# Altium footprint library HARTING Footprints.PcbLib: 317 footprints (part 15 of 20)
Each footprint in its own frame and in the unit in brackets; x right, y up, seen from the top. Pads: shape width x height; smd on the part's side, far side on the other; paste and mask are expansions set on the pad; w line width, h text height; cw(c..) or ccw(c..) is an arc to the next point about the centre after c.
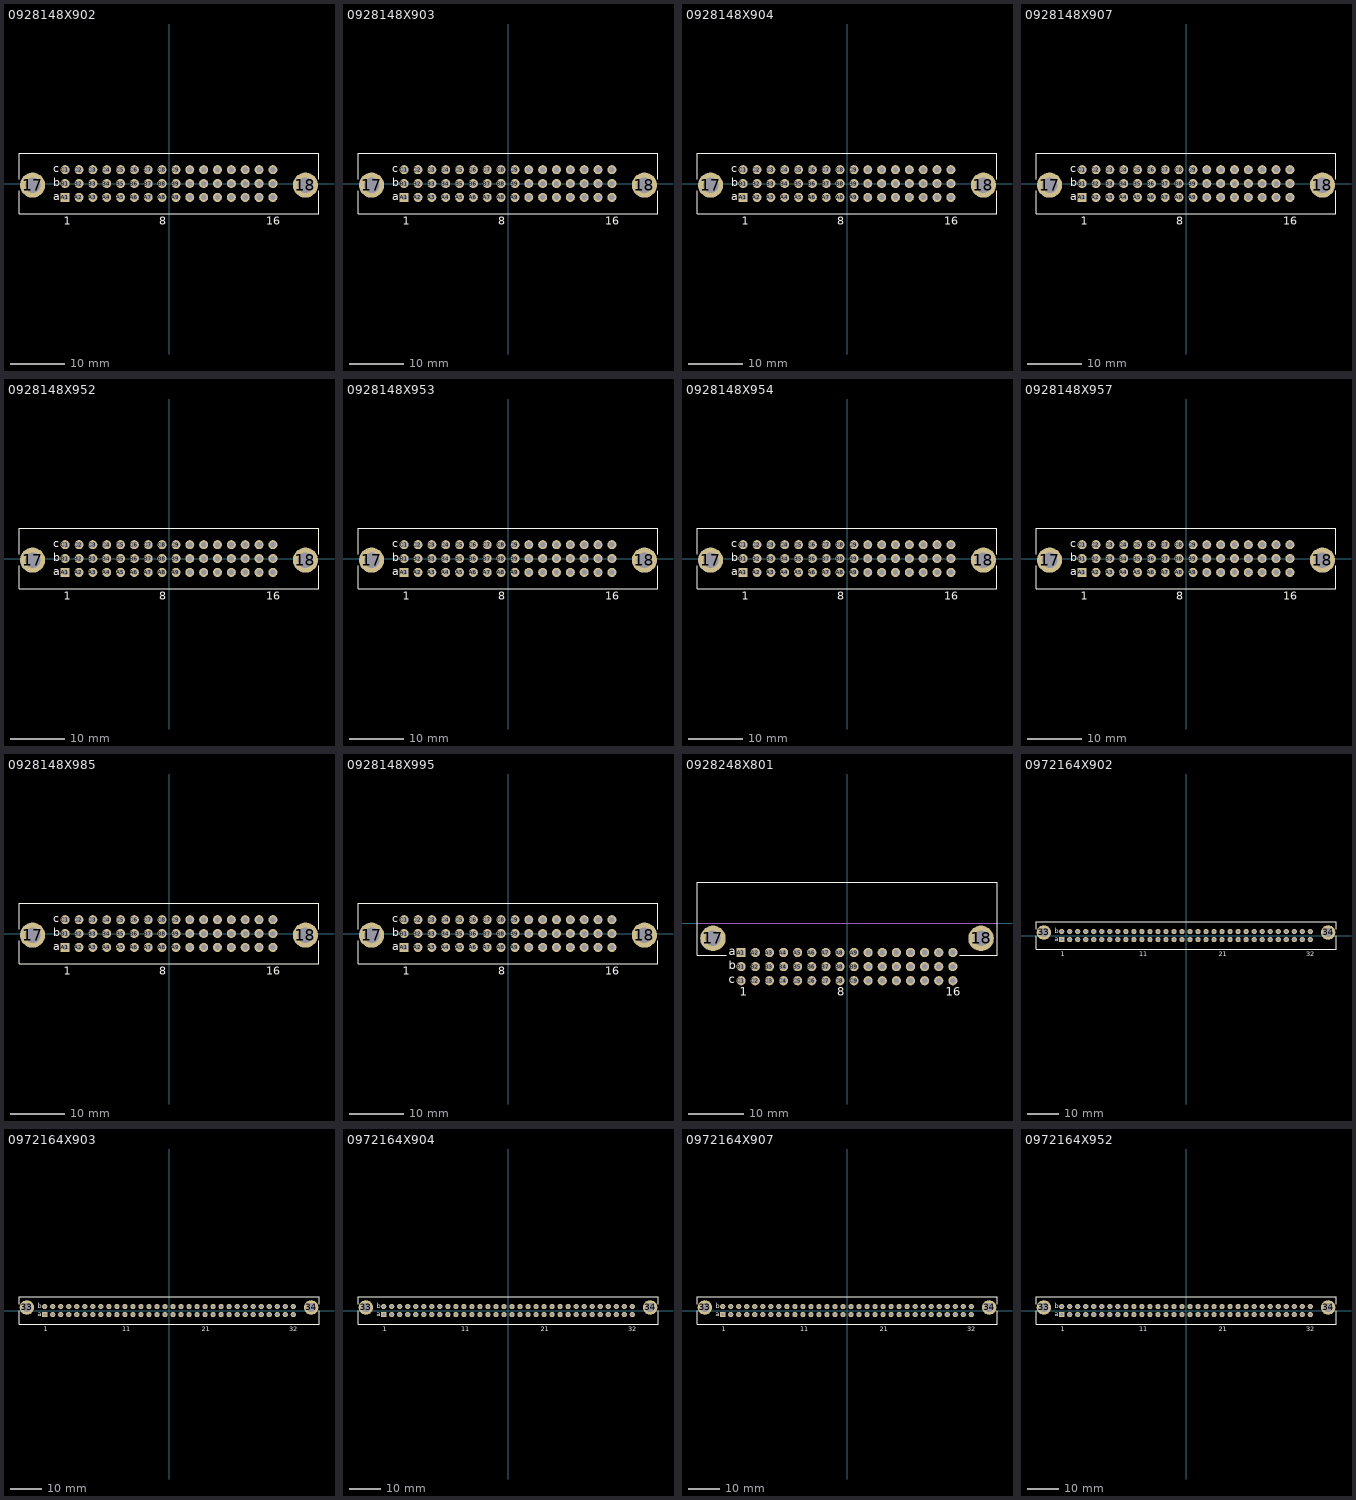
[diagram p14: the footprints below, top view; thin cyan lines are the x and y axes]

## 0928148X902 [mm] "Connector; DIN 41612, Type 2R, Thru-Hole; Rows a+b+c, 48 Position; Vertical"
height 11.6
pads (50):
  round 4.6 hole 2.8: 17(-25,-0.3) 18(25,-0.3)
  rect 1.65x1.65 hole 1: A1(-19.05,-2.54)
  round 1.65 hole 1: A2(-16.51,-2.54) A3(-13.97,-2.54) A4(-11.43,-2.54) A5(-8.89,-2.54) A6(-6.35,-2.54) A7(-3.81,-2.54) A8(-1.27,-2.54) A9(1.27,-2.54) A10(3.81,-2.54) A11(6.35,-2.54) A12(8.89,-2.54) A13(11.43,-2.54) A14(13.97,-2.54) A15(16.51,-2.54) A16(19.05,-2.54) B1(-19.05,0) B2(-16.51,0) B3(-13.97,0) B4(-11.43,0) B5(-8.89,0) B6(-6.35,0) B7(-3.81,0) B8(-1.27,0) B9(1.27,0) B10(3.81,0) B11(6.35,0) B12(8.89,0) B13(11.43,0) B14(13.97,0) B15(16.51,0) B16(19.05,0) C1(-19.05,2.54) C2(-16.51,2.54) C3(-13.97,2.54) C4(-11.43,2.54) C5(-8.89,2.54) C6(-6.35,2.54) C7(-3.81,2.54) C8(-1.27,2.54) C9(1.27,2.54) C10(3.81,2.54) C11(6.35,2.54) C12(8.89,2.54) C13(11.43,2.54) C14(13.97,2.54) C15(16.51,2.54) C16(19.05,2.54)
Top Overlay:
  lines w0.2: -27.5,-1.35 -27.5,-5.55 27.5,-5.55 27.5,-1.35 ; -27.5,0.75 -27.5,5.55 27.5,5.55 27.5,0.75
  text "1" at -19.3,-7.55 h1.5
  text "a" at -21.26,-3.04 h1.5
  text "b" at -21.26,-0.5 h1.5
  text "c" at -21.26,2.04 h1.5
  text "8" at -1.77,-7.55 h1.5
  text "16" at 17.8,-7.55 h1.5

## 0928148X903 [mm] "Connector; DIN 41612, Type 2R, Thru-Hole; Rows a+b+c, 48 Position; Vertical"
height 11.6
pads (50):
  round 4.6 hole 2.8: 17(-25,-0.3) 18(25,-0.3)
  rect 1.65x1.65 hole 1: A1(-19.05,-2.54)
  round 1.65 hole 1: A2(-16.51,-2.54) A3(-13.97,-2.54) A4(-11.43,-2.54) A5(-8.89,-2.54) A6(-6.35,-2.54) A7(-3.81,-2.54) A8(-1.27,-2.54) A9(1.27,-2.54) A10(3.81,-2.54) A11(6.35,-2.54) A12(8.89,-2.54) A13(11.43,-2.54) A14(13.97,-2.54) A15(16.51,-2.54) A16(19.05,-2.54) B1(-19.05,0) B2(-16.51,0) B3(-13.97,0) B4(-11.43,0) B5(-8.89,0) B6(-6.35,0) B7(-3.81,0) B8(-1.27,0) B9(1.27,0) B10(3.81,0) B11(6.35,0) B12(8.89,0) B13(11.43,0) B14(13.97,0) B15(16.51,0) B16(19.05,0) C1(-19.05,2.54) C2(-16.51,2.54) C3(-13.97,2.54) C4(-11.43,2.54) C5(-8.89,2.54) C6(-6.35,2.54) C7(-3.81,2.54) C8(-1.27,2.54) C9(1.27,2.54) C10(3.81,2.54) C11(6.35,2.54) C12(8.89,2.54) C13(11.43,2.54) C14(13.97,2.54) C15(16.51,2.54) C16(19.05,2.54)
Top Overlay:
  lines w0.2: -27.5,-1.35 -27.5,-5.55 27.5,-5.55 27.5,-1.35 ; -27.5,0.75 -27.5,5.55 27.5,5.55 27.5,0.75
  text "1" at -19.3,-7.55 h1.5
  text "a" at -21.26,-3.04 h1.5
  text "b" at -21.26,-0.5 h1.5
  text "c" at -21.26,2.04 h1.5
  text "8" at -1.77,-7.55 h1.5
  text "16" at 17.8,-7.55 h1.5

## 0928148X904 [mm] "Connector; DIN 41612, Type 2R, Thru-Hole; Rows a+b+c, 48 Position; Vertical"
height 11.6
pads (50):
  round 4.6 hole 2.8: 17(-25,-0.3) 18(25,-0.3)
  rect 1.65x1.65 hole 1: A1(-19.05,-2.54)
  round 1.65 hole 1: A2(-16.51,-2.54) A3(-13.97,-2.54) A4(-11.43,-2.54) A5(-8.89,-2.54) A6(-6.35,-2.54) A7(-3.81,-2.54) A8(-1.27,-2.54) A9(1.27,-2.54) A10(3.81,-2.54) A11(6.35,-2.54) A12(8.89,-2.54) A13(11.43,-2.54) A14(13.97,-2.54) A15(16.51,-2.54) A16(19.05,-2.54) B1(-19.05,0) B2(-16.51,0) B3(-13.97,0) B4(-11.43,0) B5(-8.89,0) B6(-6.35,0) B7(-3.81,0) B8(-1.27,0) B9(1.27,0) B10(3.81,0) B11(6.35,0) B12(8.89,0) B13(11.43,0) B14(13.97,0) B15(16.51,0) B16(19.05,0) C1(-19.05,2.54) C2(-16.51,2.54) C3(-13.97,2.54) C4(-11.43,2.54) C5(-8.89,2.54) C6(-6.35,2.54) C7(-3.81,2.54) C8(-1.27,2.54) C9(1.27,2.54) C10(3.81,2.54) C11(6.35,2.54) C12(8.89,2.54) C13(11.43,2.54) C14(13.97,2.54) C15(16.51,2.54) C16(19.05,2.54)
Top Overlay:
  lines w0.2: -27.5,-1.35 -27.5,-5.55 27.5,-5.55 27.5,-1.35 ; -27.5,0.75 -27.5,5.55 27.5,5.55 27.5,0.75
  text "1" at -19.3,-7.55 h1.5
  text "a" at -21.26,-3.04 h1.5
  text "b" at -21.26,-0.5 h1.5
  text "c" at -21.26,2.04 h1.5
  text "8" at -1.77,-7.55 h1.5
  text "16" at 17.8,-7.55 h1.5

## 0928148X907 [mm] "Connector; DIN 41612, Type 2R, Thru-Hole; Rows a+b+c, 48 Position; Vertical"
height 11.6
pads (50):
  round 4.6 hole 2.8: 17(-25,-0.3) 18(25,-0.3)
  rect 1.65x1.65 hole 1: A1(-19.05,-2.54)
  round 1.65 hole 1: A2(-16.51,-2.54) A3(-13.97,-2.54) A4(-11.43,-2.54) A5(-8.89,-2.54) A6(-6.35,-2.54) A7(-3.81,-2.54) A8(-1.27,-2.54) A9(1.27,-2.54) A10(3.81,-2.54) A11(6.35,-2.54) A12(8.89,-2.54) A13(11.43,-2.54) A14(13.97,-2.54) A15(16.51,-2.54) A16(19.05,-2.54) B1(-19.05,0) B2(-16.51,0) B3(-13.97,0) B4(-11.43,0) B5(-8.89,0) B6(-6.35,0) B7(-3.81,0) B8(-1.27,0) B9(1.27,0) B10(3.81,0) B11(6.35,0) B12(8.89,0) B13(11.43,0) B14(13.97,0) B15(16.51,0) B16(19.05,0) C1(-19.05,2.54) C2(-16.51,2.54) C3(-13.97,2.54) C4(-11.43,2.54) C5(-8.89,2.54) C6(-6.35,2.54) C7(-3.81,2.54) C8(-1.27,2.54) C9(1.27,2.54) C10(3.81,2.54) C11(6.35,2.54) C12(8.89,2.54) C13(11.43,2.54) C14(13.97,2.54) C15(16.51,2.54) C16(19.05,2.54)
Top Overlay:
  lines w0.2: -27.5,-1.35 -27.5,-5.55 27.5,-5.55 27.5,-1.35 ; -27.5,0.75 -27.5,5.55 27.5,5.55 27.5,0.75
  text "1" at -19.3,-7.55 h1.5
  text "a" at -21.26,-3.04 h1.5
  text "b" at -21.26,-0.5 h1.5
  text "c" at -21.26,2.04 h1.5
  text "8" at -1.77,-7.55 h1.5
  text "16" at 17.8,-7.55 h1.5

## 0928148X952 [mm] "Connector; DIN 41612, Type 2R, Thru-Hole; Rows a+b+c, 48 Position; Vertical"
height 11.6
pads (50):
  round 4.6 hole 2.8: 17(-25,-0.3) 18(25,-0.3)
  rect 1.65x1.65 hole 1: A1(-19.05,-2.54)
  round 1.65 hole 1: A2(-16.51,-2.54) A3(-13.97,-2.54) A4(-11.43,-2.54) A5(-8.89,-2.54) A6(-6.35,-2.54) A7(-3.81,-2.54) A8(-1.27,-2.54) A9(1.27,-2.54) A10(3.81,-2.54) A11(6.35,-2.54) A12(8.89,-2.54) A13(11.43,-2.54) A14(13.97,-2.54) A15(16.51,-2.54) A16(19.05,-2.54) B1(-19.05,0) B2(-16.51,0) B3(-13.97,0) B4(-11.43,0) B5(-8.89,0) B6(-6.35,0) B7(-3.81,0) B8(-1.27,0) B9(1.27,0) B10(3.81,0) B11(6.35,0) B12(8.89,0) B13(11.43,0) B14(13.97,0) B15(16.51,0) B16(19.05,0) C1(-19.05,2.54) C2(-16.51,2.54) C3(-13.97,2.54) C4(-11.43,2.54) C5(-8.89,2.54) C6(-6.35,2.54) C7(-3.81,2.54) C8(-1.27,2.54) C9(1.27,2.54) C10(3.81,2.54) C11(6.35,2.54) C12(8.89,2.54) C13(11.43,2.54) C14(13.97,2.54) C15(16.51,2.54) C16(19.05,2.54)
Top Overlay:
  lines w0.2: -27.5,-1.35 -27.5,-5.55 27.5,-5.55 27.5,-1.35 ; -27.5,0.75 -27.5,5.55 27.5,5.55 27.5,0.75
  text "1" at -19.3,-7.55 h1.5
  text "a" at -21.26,-3.04 h1.5
  text "b" at -21.26,-0.5 h1.5
  text "c" at -21.26,2.04 h1.5
  text "8" at -1.77,-7.55 h1.5
  text "16" at 17.8,-7.55 h1.5

## 0928148X953 [mm] "Connector; DIN 41612, Type 2R, Thru-Hole; Rows a+b+c, 48 Position; Vertical"
height 11.6
pads (50):
  round 4.6 hole 2.8: 17(-25,-0.3) 18(25,-0.3)
  rect 1.65x1.65 hole 1: A1(-19.05,-2.54)
  round 1.65 hole 1: A2(-16.51,-2.54) A3(-13.97,-2.54) A4(-11.43,-2.54) A5(-8.89,-2.54) A6(-6.35,-2.54) A7(-3.81,-2.54) A8(-1.27,-2.54) A9(1.27,-2.54) A10(3.81,-2.54) A11(6.35,-2.54) A12(8.89,-2.54) A13(11.43,-2.54) A14(13.97,-2.54) A15(16.51,-2.54) A16(19.05,-2.54) B1(-19.05,0) B2(-16.51,0) B3(-13.97,0) B4(-11.43,0) B5(-8.89,0) B6(-6.35,0) B7(-3.81,0) B8(-1.27,0) B9(1.27,0) B10(3.81,0) B11(6.35,0) B12(8.89,0) B13(11.43,0) B14(13.97,0) B15(16.51,0) B16(19.05,0) C1(-19.05,2.54) C2(-16.51,2.54) C3(-13.97,2.54) C4(-11.43,2.54) C5(-8.89,2.54) C6(-6.35,2.54) C7(-3.81,2.54) C8(-1.27,2.54) C9(1.27,2.54) C10(3.81,2.54) C11(6.35,2.54) C12(8.89,2.54) C13(11.43,2.54) C14(13.97,2.54) C15(16.51,2.54) C16(19.05,2.54)
Top Overlay:
  lines w0.2: -27.5,-1.35 -27.5,-5.55 27.5,-5.55 27.5,-1.35 ; -27.5,0.75 -27.5,5.55 27.5,5.55 27.5,0.75
  text "1" at -19.3,-7.55 h1.5
  text "a" at -21.26,-3.04 h1.5
  text "b" at -21.26,-0.5 h1.5
  text "c" at -21.26,2.04 h1.5
  text "8" at -1.77,-7.55 h1.5
  text "16" at 17.8,-7.55 h1.5

## 0928148X954 [mm] "Connector; DIN 41612, Type 2R, Thru-Hole; Rows a+b+c, 48 Position; Vertical"
height 11.6
pads (50):
  round 4.6 hole 2.8: 17(-25,-0.3) 18(25,-0.3)
  rect 1.65x1.65 hole 1: A1(-19.05,-2.54)
  round 1.65 hole 1: A2(-16.51,-2.54) A3(-13.97,-2.54) A4(-11.43,-2.54) A5(-8.89,-2.54) A6(-6.35,-2.54) A7(-3.81,-2.54) A8(-1.27,-2.54) A9(1.27,-2.54) A10(3.81,-2.54) A11(6.35,-2.54) A12(8.89,-2.54) A13(11.43,-2.54) A14(13.97,-2.54) A15(16.51,-2.54) A16(19.05,-2.54) B1(-19.05,0) B2(-16.51,0) B3(-13.97,0) B4(-11.43,0) B5(-8.89,0) B6(-6.35,0) B7(-3.81,0) B8(-1.27,0) B9(1.27,0) B10(3.81,0) B11(6.35,0) B12(8.89,0) B13(11.43,0) B14(13.97,0) B15(16.51,0) B16(19.05,0) C1(-19.05,2.54) C2(-16.51,2.54) C3(-13.97,2.54) C4(-11.43,2.54) C5(-8.89,2.54) C6(-6.35,2.54) C7(-3.81,2.54) C8(-1.27,2.54) C9(1.27,2.54) C10(3.81,2.54) C11(6.35,2.54) C12(8.89,2.54) C13(11.43,2.54) C14(13.97,2.54) C15(16.51,2.54) C16(19.05,2.54)
Top Overlay:
  lines w0.2: -27.5,-1.35 -27.5,-5.55 27.5,-5.55 27.5,-1.35 ; -27.5,0.75 -27.5,5.55 27.5,5.55 27.5,0.75
  text "1" at -19.3,-7.55 h1.5
  text "a" at -21.26,-3.04 h1.5
  text "b" at -21.26,-0.5 h1.5
  text "c" at -21.26,2.04 h1.5
  text "8" at -1.77,-7.55 h1.5
  text "16" at 17.8,-7.55 h1.5

## 0928148X957 [mm] "Connector; DIN 41612, Type 2R, Thru-Hole; Rows a+b+c, 48 Position; Vertical"
height 11.6
pads (50):
  round 4.6 hole 2.8: 17(-25,-0.3) 18(25,-0.3)
  rect 1.65x1.65 hole 1: A1(-19.05,-2.54)
  round 1.65 hole 1: A2(-16.51,-2.54) A3(-13.97,-2.54) A4(-11.43,-2.54) A5(-8.89,-2.54) A6(-6.35,-2.54) A7(-3.81,-2.54) A8(-1.27,-2.54) A9(1.27,-2.54) A10(3.81,-2.54) A11(6.35,-2.54) A12(8.89,-2.54) A13(11.43,-2.54) A14(13.97,-2.54) A15(16.51,-2.54) A16(19.05,-2.54) B1(-19.05,0) B2(-16.51,0) B3(-13.97,0) B4(-11.43,0) B5(-8.89,0) B6(-6.35,0) B7(-3.81,0) B8(-1.27,0) B9(1.27,0) B10(3.81,0) B11(6.35,0) B12(8.89,0) B13(11.43,0) B14(13.97,0) B15(16.51,0) B16(19.05,0) C1(-19.05,2.54) C2(-16.51,2.54) C3(-13.97,2.54) C4(-11.43,2.54) C5(-8.89,2.54) C6(-6.35,2.54) C7(-3.81,2.54) C8(-1.27,2.54) C9(1.27,2.54) C10(3.81,2.54) C11(6.35,2.54) C12(8.89,2.54) C13(11.43,2.54) C14(13.97,2.54) C15(16.51,2.54) C16(19.05,2.54)
Top Overlay:
  lines w0.2: -27.5,-1.35 -27.5,-5.55 27.5,-5.55 27.5,-1.35 ; -27.5,0.75 -27.5,5.55 27.5,5.55 27.5,0.75
  text "1" at -19.3,-7.55 h1.5
  text "a" at -21.26,-3.04 h1.5
  text "b" at -21.26,-0.5 h1.5
  text "c" at -21.26,2.04 h1.5
  text "8" at -1.77,-7.55 h1.5
  text "16" at 17.8,-7.55 h1.5

## 0928148X985 [mm] "Connector; DIN 41612, Type 2R, Thru-Hole; Rows a+b+c, 48 Position; Vertical"
height 11.6
pads (50):
  round 4.6 hole 2.8: 17(-25,-0.3) 18(25,-0.3)
  rect 1.65x1.65 hole 1: A1(-19.05,-2.54)
  round 1.65 hole 1: A2(-16.51,-2.54) A3(-13.97,-2.54) A4(-11.43,-2.54) A5(-8.89,-2.54) A6(-6.35,-2.54) A7(-3.81,-2.54) A8(-1.27,-2.54) A9(1.27,-2.54) A10(3.81,-2.54) A11(6.35,-2.54) A12(8.89,-2.54) A13(11.43,-2.54) A14(13.97,-2.54) A15(16.51,-2.54) A16(19.05,-2.54) B1(-19.05,0) B2(-16.51,0) B3(-13.97,0) B4(-11.43,0) B5(-8.89,0) B6(-6.35,0) B7(-3.81,0) B8(-1.27,0) B9(1.27,0) B10(3.81,0) B11(6.35,0) B12(8.89,0) B13(11.43,0) B14(13.97,0) B15(16.51,0) B16(19.05,0) C1(-19.05,2.54) C2(-16.51,2.54) C3(-13.97,2.54) C4(-11.43,2.54) C5(-8.89,2.54) C6(-6.35,2.54) C7(-3.81,2.54) C8(-1.27,2.54) C9(1.27,2.54) C10(3.81,2.54) C11(6.35,2.54) C12(8.89,2.54) C13(11.43,2.54) C14(13.97,2.54) C15(16.51,2.54) C16(19.05,2.54)
Top Overlay:
  lines w0.2: -27.5,-1.35 -27.5,-5.55 27.5,-5.55 27.5,-1.35 ; -27.5,0.75 -27.5,5.55 27.5,5.55 27.5,0.75
  text "1" at -19.3,-7.55 h1.5
  text "a" at -21.26,-3.04 h1.5
  text "b" at -21.26,-0.5 h1.5
  text "c" at -21.26,2.04 h1.5
  text "8" at -1.77,-7.55 h1.5
  text "16" at 17.8,-7.55 h1.5

## 0928148X995 [mm] "Connector; DIN 41612, Type 2R, Thru-Hole; Rows a+b+c, 48 Position; Vertical"
height 11.6
pads (50):
  round 4.6 hole 2.8: 17(-25,-0.3) 18(25,-0.3)
  rect 1.65x1.65 hole 1: A1(-19.05,-2.54)
  round 1.65 hole 1: A2(-16.51,-2.54) A3(-13.97,-2.54) A4(-11.43,-2.54) A5(-8.89,-2.54) A6(-6.35,-2.54) A7(-3.81,-2.54) A8(-1.27,-2.54) A9(1.27,-2.54) A10(3.81,-2.54) A11(6.35,-2.54) A12(8.89,-2.54) A13(11.43,-2.54) A14(13.97,-2.54) A15(16.51,-2.54) A16(19.05,-2.54) B1(-19.05,0) B2(-16.51,0) B3(-13.97,0) B4(-11.43,0) B5(-8.89,0) B6(-6.35,0) B7(-3.81,0) B8(-1.27,0) B9(1.27,0) B10(3.81,0) B11(6.35,0) B12(8.89,0) B13(11.43,0) B14(13.97,0) B15(16.51,0) B16(19.05,0) C1(-19.05,2.54) C2(-16.51,2.54) C3(-13.97,2.54) C4(-11.43,2.54) C5(-8.89,2.54) C6(-6.35,2.54) C7(-3.81,2.54) C8(-1.27,2.54) C9(1.27,2.54) C10(3.81,2.54) C11(6.35,2.54) C12(8.89,2.54) C13(11.43,2.54) C14(13.97,2.54) C15(16.51,2.54) C16(19.05,2.54)
Top Overlay:
  lines w0.2: -27.5,-1.35 -27.5,-5.55 27.5,-5.55 27.5,-1.35 ; -27.5,0.75 -27.5,5.55 27.5,5.55 27.5,0.75
  text "1" at -19.3,-7.55 h1.5
  text "a" at -21.26,-3.04 h1.5
  text "b" at -21.26,-0.5 h1.5
  text "c" at -21.26,2.04 h1.5
  text "8" at -1.77,-7.55 h1.5
  text "16" at 17.8,-7.55 h1.5

## 0928248X801 [mm] "Connector; DIN 41612, Type 2R, Thru-Hole; Rows a+b+c, 48 Position; Vertical"
height 11.1
pads (50):
  round 4.6 hole 2.8: 17(-24.13,-2.76) 18(24.13,-2.76)
  rect 1.65x1.65 hole 1: A1(-19.05,-5.3)
  round 1.65 hole 1: A2(-16.51,-5.3) A3(-13.97,-5.3) A4(-11.43,-5.3) A5(-8.89,-5.3) A6(-6.35,-5.3) A7(-3.81,-5.3) A8(-1.27,-5.3) A9(1.27,-5.3) A10(3.81,-5.3) A11(6.35,-5.3) A12(8.89,-5.3) A13(11.43,-5.3) A14(13.97,-5.3) A15(16.51,-5.3) A16(19.05,-5.3) B1(-19.05,-7.84) B2(-16.51,-7.84) B3(-13.97,-7.84) B4(-11.43,-7.84) B5(-8.89,-7.84) B6(-6.35,-7.84) B7(-3.81,-7.84) B8(-1.27,-7.84) B9(1.27,-7.84) B10(3.81,-7.84) B11(6.35,-7.84) B12(8.89,-7.84) B13(11.43,-7.84) B14(13.97,-7.84) B15(16.51,-7.84) B16(19.05,-7.84) C1(-19.05,-10.38) C2(-16.51,-10.38) C3(-13.97,-10.38) C4(-11.43,-10.38) C5(-8.89,-10.38) C6(-6.35,-10.38) C7(-3.81,-10.38) C8(-1.27,-10.38) C9(1.27,-10.38) C10(3.81,-10.38) C11(6.35,-10.38) C12(8.89,-10.38) C13(11.43,-10.38) C14(13.97,-10.38) C15(16.51,-10.38) C16(19.05,-10.38)
Top Overlay:
  lines w0.2: -21.75,-5.8 -27,-5.8 -27,7.34 27,7.34 27,-5.8 20.275,-5.8
  text "1" at -19.3,-13.08 h1.5
  text "a" at -21.26,-5.8 h1.5
  text "b" at -21.26,-8.34 h1.5
  text "c" at -21.26,-10.88 h1.5
  text "8" at -1.77,-13.08 h1.5
  text "16" at 17.8,-13.08 h1.5
Mechanical 1:
  lines w0.1: -27,0 27,0
  text "PCB Edge" at -26.15,0.5 h0.6

## 0972164X902 [mm] "Connector; DIN 41612, Type Q, Thru-Hole; Rows a+b, 64 Position; Vertical"
height 11.6
pads (66):
  round 4.6 hole 2.8: 33(-45,0.97) 34(45,0.97)
  rect 1.65x1.65 hole 1: A1(-39.37,-1.27)
  round 1.65 hole 1: A2(-36.83,-1.27) A3(-34.29,-1.27) A4(-31.75,-1.27) A5(-29.21,-1.27) A6(-26.67,-1.27) A7(-24.13,-1.27) A8(-21.59,-1.27) A9(-19.05,-1.27) A10(-16.51,-1.27) A11(-13.97,-1.27) A12(-11.43,-1.27) A13(-8.89,-1.27) A14(-6.35,-1.27) A15(-3.81,-1.27) A16(-1.27,-1.27) A17(1.27,-1.27) A18(3.81,-1.27) A19(6.35,-1.27) A20(8.89,-1.27) A21(11.43,-1.27) A22(13.97,-1.27) A23(16.51,-1.27) A24(19.05,-1.27) A25(21.59,-1.27) A26(24.13,-1.27) A27(26.67,-1.27) A28(29.21,-1.27) A29(31.75,-1.27) A30(34.29,-1.27) A31(36.83,-1.27) A32(39.37,-1.27) B1(-39.37,1.27) B2(-36.83,1.27) B3(-34.29,1.27) B4(-31.75,1.27) B5(-29.21,1.27) B6(-26.67,1.27) B7(-24.13,1.27) B8(-21.59,1.27) B9(-19.05,1.27) B10(-16.51,1.27) B11(-13.97,1.27) B12(-11.43,1.27) B13(-8.89,1.27) B14(-6.35,1.27) B15(-3.81,1.27) B16(-1.27,1.27) B17(1.27,1.27) B18(3.81,1.27) B19(6.35,1.27) B20(8.89,1.27) B21(11.43,1.27) B22(13.97,1.27) B23(16.51,1.27) B24(19.05,1.27) B25(21.59,1.27) B26(24.13,1.27) B27(26.67,1.27) B28(29.21,1.27) B29(31.75,1.27) B30(34.29,1.27) B31(36.83,1.27) B32(39.37,1.27)
Top Overlay:
  lines w0.2: -47.5,-0.13 -47.5,-4.3 47.5,-4.3 47.5,-0.13 ; -47.5,2.07 -47.5,4.3 47.5,4.3 47.5,2.07
  text "1" at -39.62,-6.48 h1.5
  text "a" at -41.58,-1.77 h1.5
  text "b" at -41.58,0.77 h1.5
  text "32" at 38.12,-6.48 h1.5
  text "11" at -14.82,-6.48 h1.5
  text "21" at 10.43,-6.48 h1.5

## 0972164X903 [mm] "Connector; DIN 41612, Type Q, Thru-Hole; Rows a+b, 64 Position; Vertical"
height 11.6
pads (66):
  round 4.6 hole 2.8: 33(-45,0.97) 34(45,0.97)
  rect 1.65x1.65 hole 1: A1(-39.37,-1.27)
  round 1.65 hole 1: A2(-36.83,-1.27) A3(-34.29,-1.27) A4(-31.75,-1.27) A5(-29.21,-1.27) A6(-26.67,-1.27) A7(-24.13,-1.27) A8(-21.59,-1.27) A9(-19.05,-1.27) A10(-16.51,-1.27) A11(-13.97,-1.27) A12(-11.43,-1.27) A13(-8.89,-1.27) A14(-6.35,-1.27) A15(-3.81,-1.27) A16(-1.27,-1.27) A17(1.27,-1.27) A18(3.81,-1.27) A19(6.35,-1.27) A20(8.89,-1.27) A21(11.43,-1.27) A22(13.97,-1.27) A23(16.51,-1.27) A24(19.05,-1.27) A25(21.59,-1.27) A26(24.13,-1.27) A27(26.67,-1.27) A28(29.21,-1.27) A29(31.75,-1.27) A30(34.29,-1.27) A31(36.83,-1.27) A32(39.37,-1.27) B1(-39.37,1.27) B2(-36.83,1.27) B3(-34.29,1.27) B4(-31.75,1.27) B5(-29.21,1.27) B6(-26.67,1.27) B7(-24.13,1.27) B8(-21.59,1.27) B9(-19.05,1.27) B10(-16.51,1.27) B11(-13.97,1.27) B12(-11.43,1.27) B13(-8.89,1.27) B14(-6.35,1.27) B15(-3.81,1.27) B16(-1.27,1.27) B17(1.27,1.27) B18(3.81,1.27) B19(6.35,1.27) B20(8.89,1.27) B21(11.43,1.27) B22(13.97,1.27) B23(16.51,1.27) B24(19.05,1.27) B25(21.59,1.27) B26(24.13,1.27) B27(26.67,1.27) B28(29.21,1.27) B29(31.75,1.27) B30(34.29,1.27) B31(36.83,1.27) B32(39.37,1.27)
Top Overlay:
  lines w0.2: -47.5,-0.13 -47.5,-4.3 47.5,-4.3 47.5,-0.13 ; -47.5,2.07 -47.5,4.3 47.5,4.3 47.5,2.07
  text "1" at -39.62,-6.48 h1.5
  text "a" at -41.58,-1.77 h1.5
  text "b" at -41.58,0.77 h1.5
  text "32" at 38.12,-6.48 h1.5
  text "11" at -14.82,-6.48 h1.5
  text "21" at 10.43,-6.48 h1.5

## 0972164X904 [mm] "Connector; DIN 41612, Type Q, Thru-Hole; Rows a+b, 64 Position; Vertical"
height 11.6
pads (66):
  round 4.6 hole 2.8: 33(-45,0.97) 34(45,0.97)
  rect 1.65x1.65 hole 1: A1(-39.37,-1.27)
  round 1.65 hole 1: A2(-36.83,-1.27) A3(-34.29,-1.27) A4(-31.75,-1.27) A5(-29.21,-1.27) A6(-26.67,-1.27) A7(-24.13,-1.27) A8(-21.59,-1.27) A9(-19.05,-1.27) A10(-16.51,-1.27) A11(-13.97,-1.27) A12(-11.43,-1.27) A13(-8.89,-1.27) A14(-6.35,-1.27) A15(-3.81,-1.27) A16(-1.27,-1.27) A17(1.27,-1.27) A18(3.81,-1.27) A19(6.35,-1.27) A20(8.89,-1.27) A21(11.43,-1.27) A22(13.97,-1.27) A23(16.51,-1.27) A24(19.05,-1.27) A25(21.59,-1.27) A26(24.13,-1.27) A27(26.67,-1.27) A28(29.21,-1.27) A29(31.75,-1.27) A30(34.29,-1.27) A31(36.83,-1.27) A32(39.37,-1.27) B1(-39.37,1.27) B2(-36.83,1.27) B3(-34.29,1.27) B4(-31.75,1.27) B5(-29.21,1.27) B6(-26.67,1.27) B7(-24.13,1.27) B8(-21.59,1.27) B9(-19.05,1.27) B10(-16.51,1.27) B11(-13.97,1.27) B12(-11.43,1.27) B13(-8.89,1.27) B14(-6.35,1.27) B15(-3.81,1.27) B16(-1.27,1.27) B17(1.27,1.27) B18(3.81,1.27) B19(6.35,1.27) B20(8.89,1.27) B21(11.43,1.27) B22(13.97,1.27) B23(16.51,1.27) B24(19.05,1.27) B25(21.59,1.27) B26(24.13,1.27) B27(26.67,1.27) B28(29.21,1.27) B29(31.75,1.27) B30(34.29,1.27) B31(36.83,1.27) B32(39.37,1.27)
Top Overlay:
  lines w0.2: -47.5,-0.13 -47.5,-4.3 47.5,-4.3 47.5,-0.13 ; -47.5,2.07 -47.5,4.3 47.5,4.3 47.5,2.07
  text "1" at -39.62,-6.48 h1.5
  text "a" at -41.58,-1.77 h1.5
  text "b" at -41.58,0.77 h1.5
  text "32" at 38.12,-6.48 h1.5
  text "11" at -14.82,-6.48 h1.5
  text "21" at 10.43,-6.48 h1.5

## 0972164X907 [mm] "Connector; DIN 41612, Type Q, Thru-Hole; Rows a+b, 64 Position; Vertical"
height 11.6
pads (66):
  round 4.6 hole 2.8: 33(-45,0.97) 34(45,0.97)
  rect 1.65x1.65 hole 1: A1(-39.37,-1.27)
  round 1.65 hole 1: A2(-36.83,-1.27) A3(-34.29,-1.27) A4(-31.75,-1.27) A5(-29.21,-1.27) A6(-26.67,-1.27) A7(-24.13,-1.27) A8(-21.59,-1.27) A9(-19.05,-1.27) A10(-16.51,-1.27) A11(-13.97,-1.27) A12(-11.43,-1.27) A13(-8.89,-1.27) A14(-6.35,-1.27) A15(-3.81,-1.27) A16(-1.27,-1.27) A17(1.27,-1.27) A18(3.81,-1.27) A19(6.35,-1.27) A20(8.89,-1.27) A21(11.43,-1.27) A22(13.97,-1.27) A23(16.51,-1.27) A24(19.05,-1.27) A25(21.59,-1.27) A26(24.13,-1.27) A27(26.67,-1.27) A28(29.21,-1.27) A29(31.75,-1.27) A30(34.29,-1.27) A31(36.83,-1.27) A32(39.37,-1.27) B1(-39.37,1.27) B2(-36.83,1.27) B3(-34.29,1.27) B4(-31.75,1.27) B5(-29.21,1.27) B6(-26.67,1.27) B7(-24.13,1.27) B8(-21.59,1.27) B9(-19.05,1.27) B10(-16.51,1.27) B11(-13.97,1.27) B12(-11.43,1.27) B13(-8.89,1.27) B14(-6.35,1.27) B15(-3.81,1.27) B16(-1.27,1.27) B17(1.27,1.27) B18(3.81,1.27) B19(6.35,1.27) B20(8.89,1.27) B21(11.43,1.27) B22(13.97,1.27) B23(16.51,1.27) B24(19.05,1.27) B25(21.59,1.27) B26(24.13,1.27) B27(26.67,1.27) B28(29.21,1.27) B29(31.75,1.27) B30(34.29,1.27) B31(36.83,1.27) B32(39.37,1.27)
Top Overlay:
  lines w0.2: -47.5,-0.13 -47.5,-4.3 47.5,-4.3 47.5,-0.13 ; -47.5,2.07 -47.5,4.3 47.5,4.3 47.5,2.07
  text "1" at -39.62,-6.48 h1.5
  text "a" at -41.58,-1.77 h1.5
  text "b" at -41.58,0.77 h1.5
  text "32" at 38.12,-6.48 h1.5
  text "11" at -14.82,-6.48 h1.5
  text "21" at 10.43,-6.48 h1.5

## 0972164X952 [mm] "Connector; DIN 41612, Type Q, Thru-Hole; Rows a+b, 64 Position; Vertical"
height 11.6
pads (66):
  round 4.6 hole 2.8: 33(-45,0.97) 34(45,0.97)
  rect 1.65x1.65 hole 1: A1(-39.37,-1.27)
  round 1.65 hole 1: A2(-36.83,-1.27) A3(-34.29,-1.27) A4(-31.75,-1.27) A5(-29.21,-1.27) A6(-26.67,-1.27) A7(-24.13,-1.27) A8(-21.59,-1.27) A9(-19.05,-1.27) A10(-16.51,-1.27) A11(-13.97,-1.27) A12(-11.43,-1.27) A13(-8.89,-1.27) A14(-6.35,-1.27) A15(-3.81,-1.27) A16(-1.27,-1.27) A17(1.27,-1.27) A18(3.81,-1.27) A19(6.35,-1.27) A20(8.89,-1.27) A21(11.43,-1.27) A22(13.97,-1.27) A23(16.51,-1.27) A24(19.05,-1.27) A25(21.59,-1.27) A26(24.13,-1.27) A27(26.67,-1.27) A28(29.21,-1.27) A29(31.75,-1.27) A30(34.29,-1.27) A31(36.83,-1.27) A32(39.37,-1.27) B1(-39.37,1.27) B2(-36.83,1.27) B3(-34.29,1.27) B4(-31.75,1.27) B5(-29.21,1.27) B6(-26.67,1.27) B7(-24.13,1.27) B8(-21.59,1.27) B9(-19.05,1.27) B10(-16.51,1.27) B11(-13.97,1.27) B12(-11.43,1.27) B13(-8.89,1.27) B14(-6.35,1.27) B15(-3.81,1.27) B16(-1.27,1.27) B17(1.27,1.27) B18(3.81,1.27) B19(6.35,1.27) B20(8.89,1.27) B21(11.43,1.27) B22(13.97,1.27) B23(16.51,1.27) B24(19.05,1.27) B25(21.59,1.27) B26(24.13,1.27) B27(26.67,1.27) B28(29.21,1.27) B29(31.75,1.27) B30(34.29,1.27) B31(36.83,1.27) B32(39.37,1.27)
Top Overlay:
  lines w0.2: -47.5,-0.13 -47.5,-4.3 47.5,-4.3 47.5,-0.13 ; -47.5,2.07 -47.5,4.3 47.5,4.3 47.5,2.07
  text "1" at -39.62,-6.48 h1.5
  text "a" at -41.58,-1.77 h1.5
  text "b" at -41.58,0.77 h1.5
  text "32" at 38.12,-6.48 h1.5
  text "11" at -14.82,-6.48 h1.5
  text "21" at 10.43,-6.48 h1.5